# EAGLE library part 0022288081 (library CONNECTORs)
Connector Header Through Hole, Right Angle 8 position 0.100" (2.54mm)
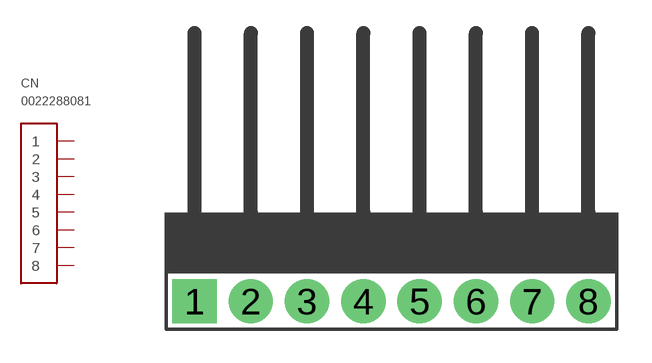
[diagram p68: symbol with the pads of PRPC008SGAN-M71RC; footprint PRPC008SGAN-M71RC]

Designator prefix CN

## 0022288081 (DIGIKEY: WM50025-08-ND; HEIGHT: 2.5; PRICE_PER: 0.24; VALUE: 8 PIN RA)  [PRPC008SGAN-M71RC]
1  1
2  2
3  3
4  4
5  5
6  6
7  7
8  8

## Footprint PRPC008SGAN-M71RC (pad centres in mm)
drill 1 pad 2 square: 1 -8.89,0
drill 1 pad 2: 2 -6.35,0; 3 -3.81,0; 4 -1.27,0; 5 1.27,0; 6 3.81,0; 7 6.35,0; 8 8.89,0